# Altium schematic symbol library BLG2X22.SchLib: 1 symbol
Pins are listed as number, name and electrical type; pins without a type are passive.

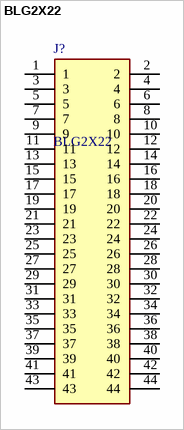
[diagram p0: symbol BLG2X22]

## BLG2X22
designator J?
3A, 1000V, -40 C to +105 C Female Header Pitch 2.54 mm double row, height 8.5 mm; Manufacturer_Name: Econ Connect; Geometry.Height: 8.65mm; Manufacturer_Part_Number: BLG2X22; Mouser Part Number: *; Mouser Price/Stock: *; Arrow Part Number: *; Arrow Price/Stock: *; Datasheet Link: https://asset.conrad.com/media10/add/160267/c1/-/en/001492335DS01/datenblatt-1492335-econ-connect-buchsenleiste-standard-anzahl-reihen-2-polzahl-je-reihe-22-blg2x22-1-st.pdf
footprint RHDR44W64P254X254_2X22_5638X500X865P
pins: 1, 2, 3, 4, 5, 6, 7, 8, 9, 10, 11, 12, 13, 14, 15, 16, 17, 18, 19, 20, 21, 22, 23, 24, 25, 26, 27, 28, 29, 30, 31, 32, 33, 34, 35, 36, 37, 38, 39, 40, 41, 42, 43, 44